# Altium integrated library pimoroni-boards2040.Library.IntLib: 1 symbol
Pins are listed as number, name and electrical type; pins without a type are passive.

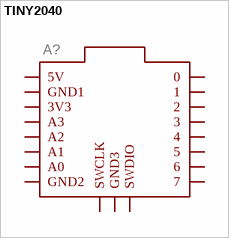
[diagram p0: symbol TINY2040]

## TINY2040
designator A?
GateName_1: G$1; SymbolName_1: TINY2040; LibraryName: pimoroni-boards2040; DeviceSetName: TINY2040; Package: TINY2040
footprint TINY2040
pins: 0 (io), 1 (io), 2 (io), 3 (io), 3V3 (io), 4 (io), 5 (io), 5V (io), 6 (io), 7 (io), A0 (io), A1 (io), A2 (io), A3 (io), GND1 (io), GND2 (io), GND3 (io), SWCLK (io), SWDIO (io)